# Altium footprint library LED 7S SMD.PcbLib: 1 footprints
Each footprint in its own frame and in the unit in brackets; x right, y up, seen from the top. Pads: shape width x height; smd on the part's side, far side on the other; paste and mask are expansions set on the pad; w line width, h text height; cw(c..) or ccw(c..) is an arc to the next point about the centre after c.
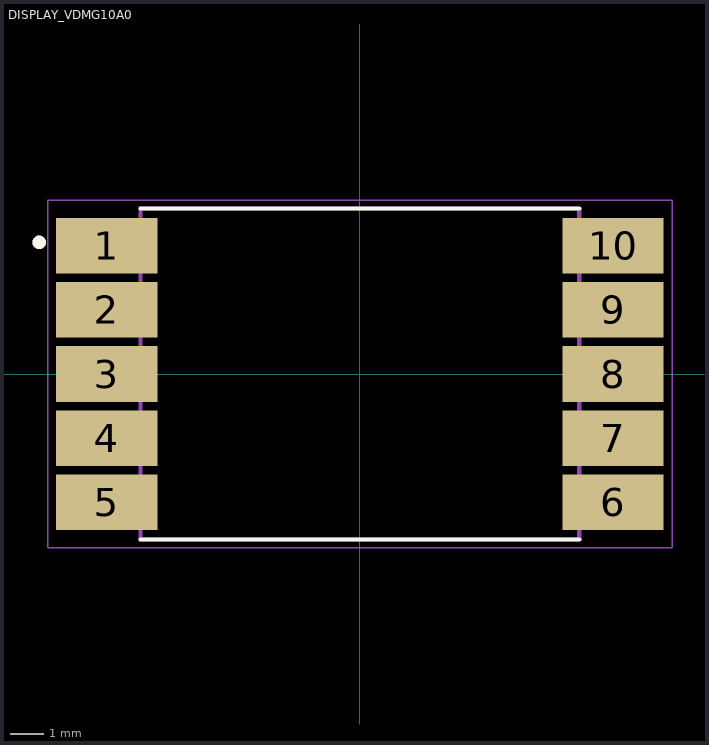
[diagram p0: the footprint, top view; thin cyan lines are the x and y axes]

## DISPLAY_VDMG10A0 [mm]
pads (10):
  rect 3x1.65 smd: 1(-7.5,3.8) 2(-7.5,1.9) 3(-7.5,0) 4(-7.5,-1.9) 5(-7.5,-3.8) 6(7.5,-3.8) 7(7.5,-1.9) 8(7.5,0) 9(7.5,1.9) 10(7.5,3.8)
Top Overlay:
  circle w0.2: c-9.5,3.9 r0.1
  lines w0.127: -6.5,-4.9 6.5,-4.9 ; -6.5,4.9 6.5,4.9
Mechanical 13:
  circle w0.2: c-9.5,3.9 r0.1
  lines w0.127: -6.5,-4.9 6.5,-4.9 6.5,4.9 -6.5,4.9 -6.5,-4.9
Mechanical 15:
  lines w0.05: -9.25,-5.15 9.25,-5.15 9.25,5.15 -9.25,5.15 -9.25,-5.15
3D body "User Library-ACSA56_Blue.STEP": height 3.75, standoff 0, extent -9.63,-6.18 9.37,6.22